# Altium integrated library TI Data Converters Digital to Analog Converter.IntLib: 1533 symbols (part 18 of 99)
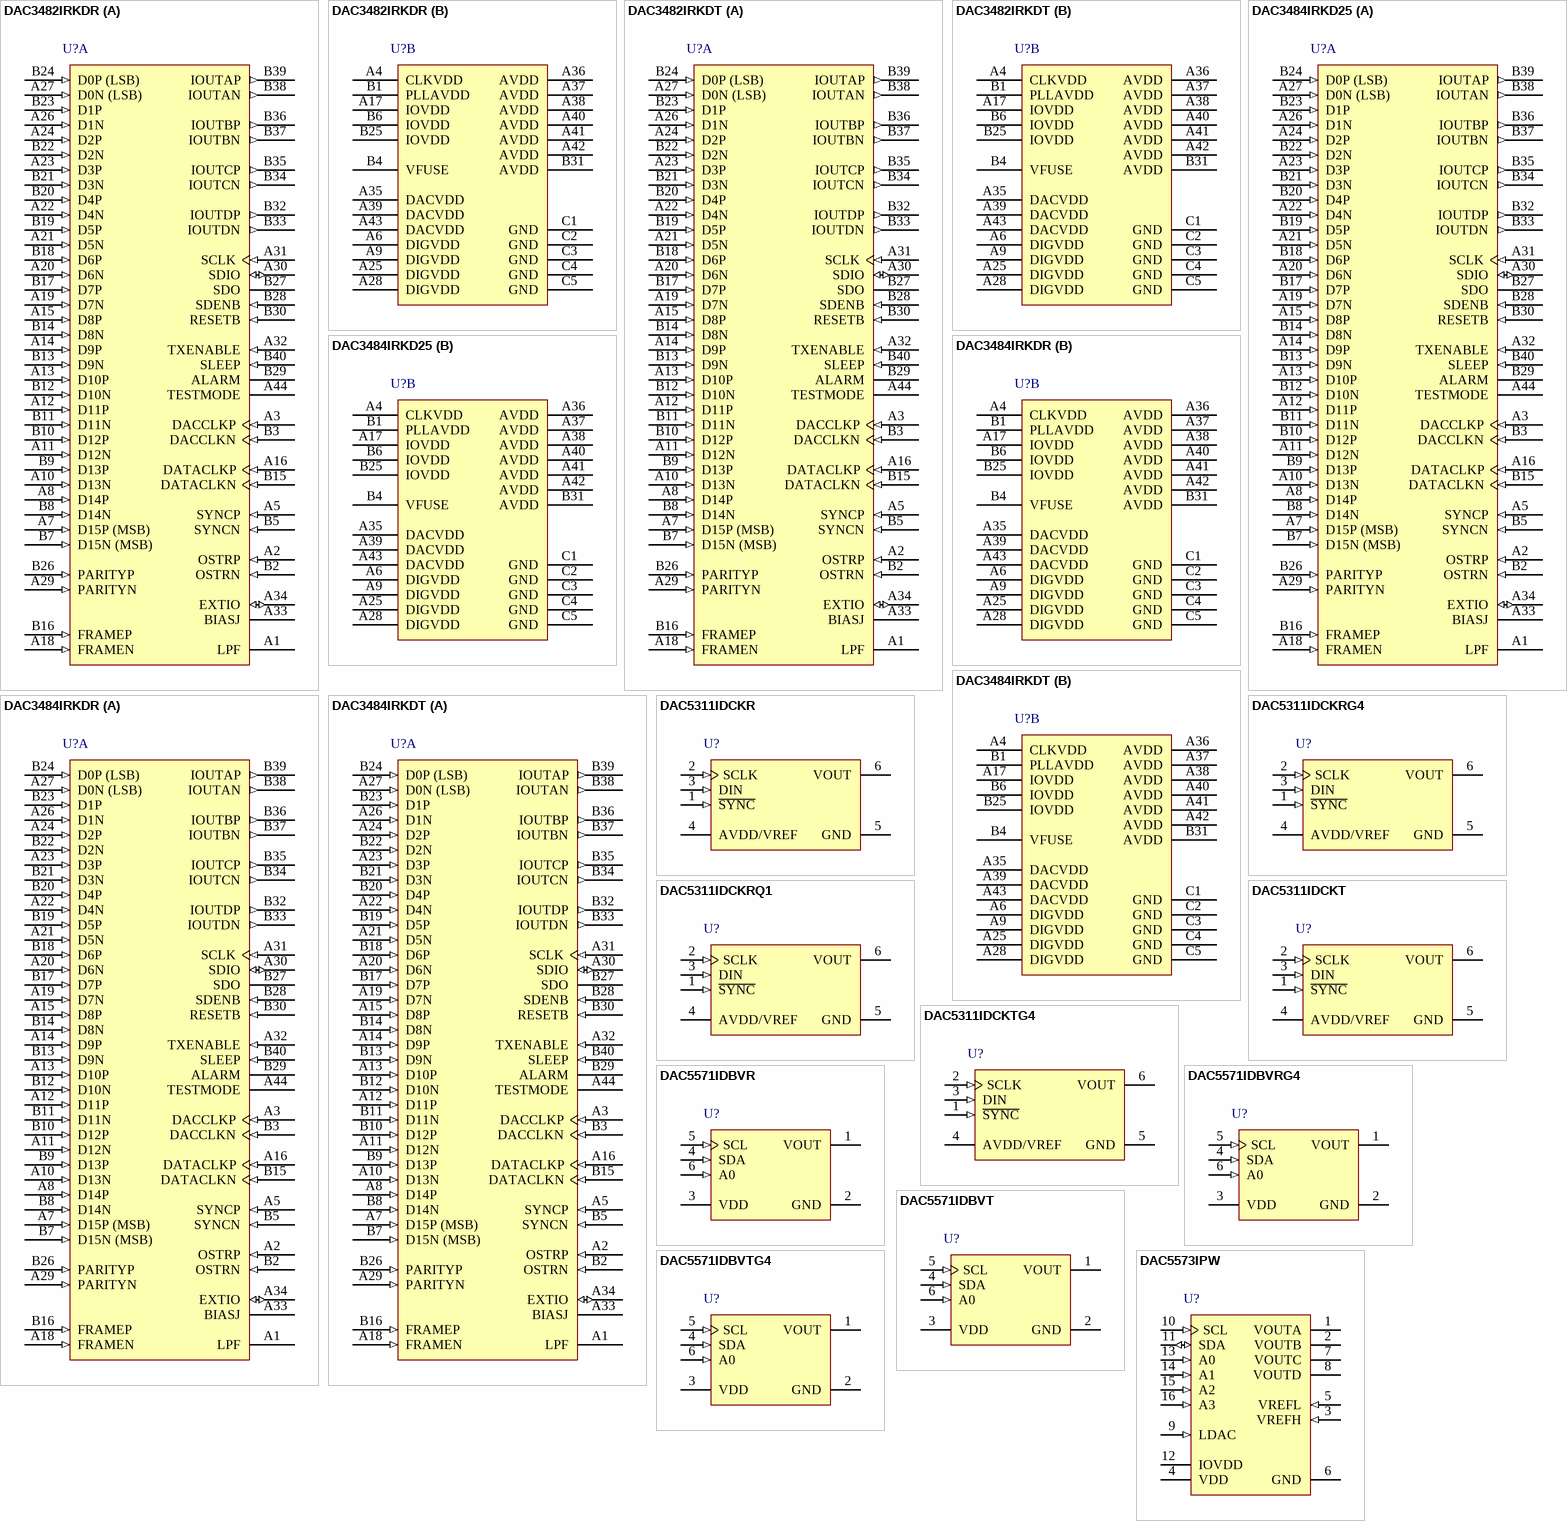
[diagram p90: symbols DAC3482IRKDR to DAC5573IPW]

## DAC3484IRKDT
designator U?
4-Channel 16-Bit 1.25 GSPS DAC, -40 to 85 degC, 88-pin QFN (RKD88), Green (RoHS & no Sb/Br); Manufacturer: Texas Instruments; PartNumber: DAC3484IRKDT; DAC Channels: 4; Interface: Parallel LVDS; Power Consumption(Typ)(mW): 1270; Resolution(Bits): 16; Settling Time(us): 0.01; SFDR(dB): 82; SubFamily: High Speed DAC (>10MSPS); DatasheetVersion: SLAS749C; PackageVersion: 4210251/A, 04/2009; PackageReference: RKD88-6300X6300TP; PackageDescription: 88-Pin Plastic Quad Flatpack No-Lead, Body 9 x 9 mm, Pitch 0.6 mm; Supplier 1: Digi-Key; Supplier Part Number 1: 296-29397-2-ND; Supplier 2: Digi-Key; Supplier Part Number 2: 296-29397-1-ND; Supplier 3: Digi-Key; Supplier Part Number 3: 296-29397-6-ND; Supplier 4: Newark; Supplier Part Number 4: 58T0056; Supplier 5: Mouser; Supplier Part Number 5: 595-DAC3484IRKDT; Eco-Plan: Green (RoHS & no Sb/Br); Mounting Technology: Surface Mount; ComponentLink1Description: Manufacturer URL; ComponentLink1URL: http://www.ti.com/; ComponentLink2Description: Datasheet; ComponentLink2URL: http://www.ti.com/general/docs/lit/getliterature.tsp?genericPartNumber=DAC3484&fileType=pdf; ComponentLink3Description: Package Specification; ComponentLink3URL: http://www.ti.com/litv/pdf/mpqf242
footprint TI-RKD88-6300X6300TP_V (QFN, 88-Leads, Body 9x9mm, Pitch 0.6mm, Thermal Pad 6.3x6.3mm)
part A pins: A1 LPF "PLL loop filter connection. If not using the clock multiplying PLL, the LPF pin can be left unconnected.", A2 OSTRP (in) "LVPECL output strobe positive input. This positive/negative pair is captured with the rising edge of DACCLKP/N. It is used for multiple DAC synchronization. If unused it can be left unconnected.", A3 DACCLKP (in) "Positive external LVPECL clock input for DAC core with a self-bias.", A5 SYNCP (in) "Optional LVDS SYNC positive input. The SYNCP/N LVDS pair has an internal 100 ohm termination resistor. If unused it can be left unconnected.", A7 D15P (MSB) (in) "LVDS positive input data bits 0 through 15. Internal 100 ohm termination resistor. Data format relative to DATACLKP/N clock is Double Data Rate (DDR). D15P is most significant data bit (MSB) D0P is least significant data bit (See Datasheet)", A8 D14P (in) "LVDS positive input data bits 0 through 15. Internal 100 ohm termination resistor. Data format relative to DATACLKP/N clock is Double Data Rate (DDR). D15P is most significant data bit (MSB) D0P is least significant data bit (See Datasheet)", A10 D13N (in) "LVDS negative input data bits 0 through 15. (See D[15:0]P description above)", A11 D12N (in) "LVDS negative input data bits 0 through 15. (See D[15:0]P description above)", A12 D11P (in) "LVDS positive input data bits 0 through 15. Internal 100 ohm termination resistor. Data format relative to DATACLKP/N clock is Double Data Rate (DDR). D15P is most significant data bit (MSB) D0P is least significant data bit (See Datasheet)", A13 D10P (in) "LVDS positive input data bits 0 through 15. Internal 100 ohm termination resistor. Data format relative to DATACLKP/N clock is Double Data Rate (DDR). D15P is most significant data bit (MSB) D0P is least significant data bit (See Datasheet)", A14 D9P (in) "LVDS positive input data bits 0 through 15. Internal 100 ohm termination resistor. Data format relative to DATACLKP/N clock is Double Data Rate (DDR). D15P is most significant data bit (MSB) D0P is least significant data bit (See Datasheet)", A15 D8P (in) "LVDS positive input data bits 0 through 15. Internal 100 ohm termination resistor. Data format relative to DATACLKP/N clock is Double Data Rate (DDR). D15P is most significant data bit (MSB) D0P is least significant data bit (See Datasheet)", A16 DATACLKP (in) "LVDS positive input data clock. Internal 100 ohm termination resistor. Input data D[15:0]P/N is latched on both edges of DATACLKP/N (Double Data Rate).", A18 FRAMEN (in) "LVDS frame indicator negative input. (See the FRAMEP description)", A19 D7N (in) "LVDS negative input data bits 0 through 15. (See D[15:0]P description above)", A20 D6N (in) "LVDS negative input data bits 0 through 15. (See D[15:0]P description above)", A21 D5N (in) "LVDS negative input data bits 0 through 15. (See D[15:0]P description above)", A22 D4N (in) "LVDS negative input data bits 0 through 15. (See D[15:0]P description above)", A23 D3P (in) "LVDS positive input data bits 0 through 15. Internal 100 ohm termination resistor. Data format relative to DATACLKP/N clock is Double Data Rate (DDR). D15P is most significant data bit (MSB) D0P is least significant data bit (See Datasheet)", A24 D2P (in) "LVDS positive input data bits 0 through 15. Internal 100 ohm termination resistor. Data format relative to DATACLKP/N clock is Double Data Rate (DDR). D15P is most significant data bit (MSB) D0P is least significant data bit (See Datasheet)", A26 D1N (in) "LVDS negative input data bits 0 through 15. (See D[15:0]P description above)", A27 D0N (LSB) (in) "LVDS negative input data bits 0 through 15. (See D[15:0]P description above)", A29 PARITYN (in) "Optional LVDS negative input parity bit.", A30 SDIO (io) "Serial interface data. Bi-directional in 3-pin mode (default) and uni-directional 4-pin mode. Internal pull-down.", A31 SCLK (in) "Serial interface clock. Internal pull-down.", A32 TXENABLE (in) "Transmit enable active high input. Internal pull-down. To enable analog output data transmission, set sif_txenable in register config3 to “1” or pull CMOS TXENABLE pin to high. To disable analog output, set sif_txena(See Datasheet)", A33 BIASJ "Full-scale output current bias. For 30mA full-scale output current, connect 1.28 kohm to ground. Change the full-scale output current through coarse_dac(3:0) in config3, bit<15:12>", A34 EXTIO (io) "Used as external reference input when internal reference is disabled through config27 extref_ena = ‘1’. Used as internal reference output when config27 extref_ena = ‘0’ (default). Requires a 0.1 uF dec(See Datasheet)", A44 TESTMODE "This pin is used for factory testing. Internal pull-down. Leave unconnected for normal operation.", B2 OSTRN (in) "LVPECL output strobe negative input. (See the OSTRP description)", B3 DACCLKN (in) "Complementary external LVPECL clock input for DAC core. (see the DACCLKP description)", B5 SYNCN (in) "Optional LVDS SYNC negative input.", B7 D15N (MSB) (in) "LVDS negative input data bits 0 through 15. (See D[15:0]P description above)", B8 D14N (in) "LVDS negative input data bits 0 through 15. (See D[15:0]P description above)", B9 D13P (in) "LVDS positive input data bits 0 through 15. Internal 100 ohm termination resistor. Data format relative to DATACLKP/N clock is Double Data Rate (DDR). D15P is most significant data bit (MSB) D0P is least significant data bit (See Datasheet)", B10 D12P (in) "LVDS positive input data bits 0 through 15. Internal 100 ohm termination resistor. Data format relative to DATACLKP/N clock is Double Data Rate (DDR). D15P is most significant data bit (MSB) D0P is least significant data bit (See Datasheet)", B11 D11N (in) "LVDS negative input data bits 0 through 15. (See D[15:0]P description above)", B12 D10N (in) "LVDS negative input data bits 0 through 15. (See D[15:0]P description above)", B13 D9N (in) "LVDS negative input data bits 0 through 15. (See D[15:0]P description above)", B14 D8N (in) "LVDS negative input data bits 0 through 15. (See D[15:0]P description above)", B15 DATACLKN (in) "LVDS negative input data clock. (See DATACLKP description)", B16 FRAMEP (in) "LVDS frame indicator positive input. Internal 100 ohm termination resistor. The main functions of this input are to reset the FIFO pointer or to be used as a syncing source. These two functions are captured with the rising (See Datasheet)", B17 D7P (in) "LVDS positive input data bits 0 through 15. Internal 100 ohm termination resistor. Data format relative to DATACLKP/N clock is Double Data Rate (DDR). D15P is most significant data bit (MSB) D0P is least significant data bit (See Datasheet)", B18 D6P (in) "LVDS positive input data bits 0 through 15. Internal 100 ohm termination resistor. Data format relative to DATACLKP/N clock is Double Data Rate (DDR). D15P is most significant data bit (MSB) D0P is least significant data bit (See Datasheet)", B19 D5P (in) "LVDS positive input data bits 0 through 15. Internal 100 ohm termination resistor. Data format relative to DATACLKP/N clock is Double Data Rate (DDR). D15P is most significant data bit (MSB) D0P is least significant data bit (See Datasheet)", B20 D4P (in) "LVDS positive input data bits 0 through 15. Internal 100 ohm termination resistor. Data format relative to DATACLKP/N clock is Double Data Rate (DDR). D15P is most significant data bit (MSB) D0P is least significant data bit (See Datasheet)", B21 D3N (in) "LVDS negative input data bits 0 through 15. (See D[15:0]P description above)", B22 D2N (in) "LVDS negative input data bits 0 through 15. (See D[15:0]P description above)", B23 D1P (in) "LVDS positive input data bits 0 through 15. Internal 100 ohm termination resistor. Data format relative to DATACLKP/N clock is Double Data Rate (DDR). D15P is most significant data bit (MSB) D0P is least significant data bit (See Datasheet)", B24 D0P (LSB) (in) "LVDS positive input data bits 0 through 15. Internal 100 ohm termination resistor. Data format relative to DATACLKP/N clock is Double Data Rate (DDR). D15P is most significant data bit (MSB) D0P is least significant data bit (See Datasheet)", B26 PARITYP (in) "Optional LVDS positive input parity bit. The PARITYP/N LVDS pair has an internal 100 ohm termination resistor. If unused it can be left unconnected.", B27 SDO (hiz) "Uni-directional serial interface data in 4-pin mode. The SDO pin is tri-stated in 3-pin interface mode (default).", B28 SDENB (in) "Active low serial data enable, always an input to the DAC3484. Internal pull-up.", B29 ALARM (hiz) "CMOS output for ALARM condition. The ALARM output functionality is defined through the config7 register. Default polarity is active high, but can be changed to active low via config0 alarm_out_pol control bit", B30 RESETB (in) "Active low input for chip RESET, which resets all the programming registers to their default state. Internal pull-up.", B32 IOUTDP (out) "D-Channel DAC current output. Connect directly to ground if unused.", B33 IOUTDN (out) "D-Channel DAC complementary current output. Connect directly to ground if unused.", B34 IOUTCN (out) "C-Channel DAC complementary current output. Connect directly to ground if unused.", B35 IOUTCP (out) "C-Channel DAC current output. Connect directly to ground if unused.", B36 IOUTBP (out) "B-Channel DAC current output. Connect directly to ground if unused.", B37 IOUTBN (out) "B-Channel DAC complementary current output. Connect directly to ground if unused.", B38 IOUTAN (out) "A-Channel DAC complementary current output. Connect directly to ground if unused.", B39 IOUTAP (out) "A-Channel DAC current output. Connect directly to ground if unused.", B40 SLEEP (in) "Active high asynchronous hardware power-down input. Internal pull-down."
part B pins: A4 CLKVDD (power) "Internal clock buffer supply voltage. (1.2 V) It is recommended to isolate this supply from DIGVDD and DACVDD.", A6 DIGVDD (power) "Digital supply voltage. (1.2 V). It is recommended to isolate this supply from CLKVDD and DACVDD.", A9 DIGVDD (power) "Digital supply voltage. (1.2 V). It is recommended to isolate this supply from CLKVDD and DACVDD.", A17 IOVDD (power) "Supply voltage for all digital I/O. (3.3 V)", A25 DIGVDD (power) "Digital supply voltage. (1.2 V). It is recommended to isolate this supply from CLKVDD and DACVDD.", A28 DIGVDD (power) "Digital supply voltage. (1.2 V). It is recommended to isolate this supply from CLKVDD and DACVDD.", A35 DACVDD (power) "DAC core supply voltage. (1.2 V). It is recommended to isolate this supply from CLKVDD and DIGVDD.", A36 AVDD (power) "Analog supply voltage. (3.3 V)", A37 AVDD (power) "Analog supply voltage. (3.3 V)", A38 AVDD (power) "Analog supply voltage. (3.3 V)", A39 DACVDD (power) "DAC core supply voltage. (1.2 V). It is recommended to isolate this supply from CLKVDD and DIGVDD.", A40 AVDD (power) "Analog supply voltage. (3.3 V)", A41 AVDD (power) "Analog supply voltage. (3.3 V)", A42 AVDD (power) "Analog supply voltage. (3.3 V)", A43 DACVDD (power) "DAC core supply voltage. (1.2 V). It is recommended to isolate this supply from CLKVDD and DIGVDD.", B1 PLLAVDD (power) "PLL analog supply voltage. (3.3 V)", B4 VFUSE (power) "Digital supply voltage. This supply pin is also used for factory fuse programming. Connect to DACVDD for normal operation.", B6 IOVDD (power) "Supply voltage for all digital I/O. (3.3 V)", B25 IOVDD (power) "Supply voltage for all digital I/O. (3.3 V)", B31 AVDD (power) "Analog supply voltage. (3.3 V)", C1 GND (power) "These pins are ground for all supplies.", C2 GND (power) "These pins are ground for all supplies.", C3 GND (power) "These pins are ground for all supplies.", C4 GND (power) "These pins are ground for all supplies.", C5 GND (power) "These pins are ground for all supplies."

## DAC5311IDCKR
designator U?
8-Bit, Single Channel, 80 uA, 1.8 to 5.5 V DAC, -40 to 125 degC, 6-pin SOT23 (DCK6), Green (RoHS & no Sb/Br); Manufacturer: Texas Instruments; PartNumber: DAC5311IDCKR; DAC Channels: 1; DNL(Max)(+/-LSB): 0.25; Interface: Serial SPI; Power Consumption(Typ)(mW): 0.14; Resolution(Bits): 8; Settling Time(us): 6; SFDR(dB): 65; SNR(dB): 81; SubFamily: Precision DAC (=<10MSPS); DatasheetVersion: SBAS442B; PackageVersion: 4093553-4/G, 01/2007; PackageReference: DCK6; PackageDescription: 6-Pin Plastic Small Outline, Body 2 x 1.25 mm, Pitch 0.65 mm; Supplier 1: Digi-Key; Supplier Part Number 1: 296-24180-2-ND; Supplier 2: Digi-Key; Supplier Part Number 2: 296-24180-1-ND; Supplier 3: Digi-Key; Supplier Part Number 3: 296-24180-6-ND; Supplier 4: Newark; Supplier Part Number 4: 87W8956; Supplier 5: Newark; Supplier Part Number 5: 12P7424; Supplier 6: Mouser; Supplier Part Number 6: 595-DAC5311IDCKR; Eco-Plan: Green (RoHS & no Sb/Br); INL(Max)(+/-LSB): 0.25; Mounting Technology: Surface Mount; Code_JEDEC: MO-203; ComponentLink1Description: Manufacturer URL; ComponentLink1URL: http://www.ti.com/; ComponentLink2Description: Datasheet; ComponentLink2URL: http://www.ti.com/general/docs/lit/getliterature.tsp?genericPartNumber=DAC5311&fileType=pdf; ComponentLink3Description: Package Specification; ComponentLink3URL: http://www.ti.com/litv/pdf/mpds114c
footprint TI-DCK6_V (SOT23, 6-Leads, Body 2x1.25mm, Pitch 0.65mm)
pins: 1 ~{SYNC} (in) "Level-triggered control input (active low). This is the frame sychronization signal for the input data. When S\Y\N\C\ goes low, it enables the input shift register and data are transferred in on the falling edges of the (See Datasheet)", 2 SCLK (in) "Serial Clock Input. Data can be transferred at rates up to 50MHz.", 3 DIN (in) "Serial Data Input. Data is clocked into the 24-bit (DAC8411) or 16-bit (DAC8311) input shift register on the falling edge of the serial clock input.", 4 AVDD/VREF (power) "Power Supply Input, +2.0V to 5.5V.", 5 GND (power) "Ground reference point for all circuitry on the part.", 6 VOUT (hiz) "Analog output voltage from DAC. The output amplifier has rail-to-rail operation."

## DAC5311IDCKRG4
designator U?
8-Bit, Single Channel, 80 uA, 1.8 to 5.5 V DAC, -40 to 125 degC, 6-pin SOT23 (DCK6), Green (RoHS & no Sb/Br); Manufacturer: Texas Instruments; PartNumber: DAC5311IDCKRG4; DAC Channels: 1; DNL(Max)(+/-LSB): 0.25; Interface: Serial SPI; Power Consumption(Typ)(mW): 0.14; Resolution(Bits): 8; Settling Time(us): 6; SFDR(dB): 65; SNR(dB): 81; SubFamily: Precision DAC (=<10MSPS); DatasheetVersion: SBAS442B; PackageVersion: 4093553-4/G, 01/2007; PackageReference: DCK6; PackageDescription: 6-Pin Plastic Small Outline, Body 2 x 1.25 mm, Pitch 0.65 mm; Supplier 1: Digi-Key; Supplier Part Number 1: DAC5311IDCKRG4-ND; Supplier 2: Mouser; Supplier Part Number 2: 595-DAC5311IDCKRG4; Eco-Plan: Green (RoHS & no Sb/Br); INL(Max)(+/-LSB): 0.25; Mounting Technology: Surface Mount; Code_JEDEC: MO-203; ComponentLink1Description: Manufacturer URL; ComponentLink1URL: http://www.ti.com/; ComponentLink2Description: Datasheet; ComponentLink2URL: http://www.ti.com/general/docs/lit/getliterature.tsp?genericPartNumber=DAC5311&fileType=pdf; ComponentLink3Description: Package Specification; ComponentLink3URL: http://www.ti.com/litv/pdf/mpds114c
footprint TI-DCK6_V (SOT23, 6-Leads, Body 2x1.25mm, Pitch 0.65mm)
pins: 1 ~{SYNC} (in) "Level-triggered control input (active low). This is the frame sychronization signal for the input data. When S\Y\N\C\ goes low, it enables the input shift register and data are transferred in on the falling edges of the (See Datasheet)", 2 SCLK (in) "Serial Clock Input. Data can be transferred at rates up to 50MHz.", 3 DIN (in) "Serial Data Input. Data is clocked into the 24-bit (DAC8411) or 16-bit (DAC8311) input shift register on the falling edge of the serial clock input.", 4 AVDD/VREF (power) "Power Supply Input, +2.0V to 5.5V.", 5 GND (power) "Ground reference point for all circuitry on the part.", 6 VOUT (hiz) "Analog output voltage from DAC. The output amplifier has rail-to-rail operation."

## DAC5311IDCKRQ1
designator U?
Automotive Catalog 8-Bit, Single Channel, 80 uA, 1.8 to 5.5 V DAC, -40 to 85 degC, 6-pin SOT23 (DCK6), Green (RoHS & no Sb/Br); Manufacturer: Texas Instruments; PartNumber: DAC5311IDCKRQ1; DAC Channels: 1; DNL(Max)(+/-LSB): 0.25; Interface: Serial SPI; Power Consumption(Typ)(mW): 0.55; Resolution(Bits): 8; Settling Time(us): 6; SFDR(dB): 65; SNR(dB): 81; SubFamily: Precision DAC (=<10MSPS); DatasheetVersion: SBAS470; PackageVersion: 4093553-4/G, 01/2007; PackageReference: DCK6; PackageDescription: 6-Pin Plastic Small Outline, Body 2 x 1.25 mm, Pitch 0.65 mm; Supplier 1: Digi-Key; Supplier Part Number 1: 296-24816-2-ND; Supplier 2: Digi-Key; Supplier Part Number 2: 296-24816-1-ND; Supplier 3: Digi-Key; Supplier Part Number 3: 296-24816-6-ND; Supplier 4: Mouser; Supplier Part Number 4: 595-DAC5311IDCKRQ1; Eco-Plan: Green (RoHS & no Sb/Br); INL(Max)(+/-LSB): 0.25; Mounting Technology: Surface Mount; Code_JEDEC: MO-203; ComponentLink1Description: Manufacturer URL; ComponentLink1URL: http://www.ti.com/; ComponentLink2Description: Datasheet; ComponentLink2URL: http://www.ti.com/general/docs/lit/getliterature.tsp?genericPartNumber=DAC5311-Q1&fileType=pdf; ComponentLink3Description: Package Specification; ComponentLink3URL: http://www.ti.com/litv/pdf/mpds114c
footprint TI-DCK6_V (SOT23, 6-Leads, Body 2x1.25mm, Pitch 0.65mm)
pins: 1 ~{SYNC} (in) "Level-triggered control input (active low). This is the frame synchronization signal for the input data. When S\Y\N\C\ goes low, it enables the input shift register and data are transferred in on the falling edges of the (See Datasheet)", 2 SCLK (in) "Serial Clock Input. Data can be transferred at rates up to 50MHz.", 3 DIN (in) "Serial data input. Data is clocked into the 16-bit input shift register on the falling edge of the serial clock input.", 4 AVDD/VREF (power) "Power Supply Input, 1.8V to 5.5V.", 5 GND (power) "Ground reference point for all circuitry on the part.", 6 VOUT (hiz) "Analog output voltage from DAC. The output amplifier has rail-to-rail operation."

## DAC5311IDCKT
designator U?
8-Bit, Single Channel, 80 uA, 1.8 to 5.5 V DAC, -40 to 125 degC, 6-pin SOT23 (DCK6), Green (RoHS & no Sb/Br); Manufacturer: Texas Instruments; PartNumber: DAC5311IDCKT; DAC Channels: 1; DNL(Max)(+/-LSB): 0.25; Interface: Serial SPI; Power Consumption(Typ)(mW): 0.14; Resolution(Bits): 8; Settling Time(us): 6; SFDR(dB): 65; SNR(dB): 81; SubFamily: Precision DAC (=<10MSPS); DatasheetVersion: SBAS442B; PackageVersion: 4093553-4/G, 01/2007; PackageReference: DCK6; PackageDescription: 6-Pin Plastic Small Outline, Body 2 x 1.25 mm, Pitch 0.65 mm; Supplier 1: Digi-Key; Supplier Part Number 1: 296-23715-2-ND; Supplier 2: Digi-Key; Supplier Part Number 2: 296-23715-1-ND; Supplier 3: Digi-Key; Supplier Part Number 3: 296-23715-6-ND; Supplier 4: Farnell; Supplier Part Number 4: 1679760; Supplier 5: Newark; Supplier Part Number 5: 08P4363; Supplier 6: Mouser; Supplier Part Number 6: 595-DAC5311IDCKT; Eco-Plan: Green (RoHS & no Sb/Br); INL(Max)(+/-LSB): 0.25; Mounting Technology: Surface Mount; Code_JEDEC: MO-203; ComponentLink1Description: Manufacturer URL; ComponentLink1URL: http://www.ti.com/; ComponentLink2Description: Datasheet; ComponentLink2URL: http://www.ti.com/general/docs/lit/getliterature.tsp?genericPartNumber=DAC5311&fileType=pdf; ComponentLink3Description: Package Specification; ComponentLink3URL: http://www.ti.com/litv/pdf/mpds114c
footprint TI-DCK6_V (SOT23, 6-Leads, Body 2x1.25mm, Pitch 0.65mm)
pins: 1 ~{SYNC} (in) "Level-triggered control input (active low). This is the frame sychronization signal for the input data. When S\Y\N\C\ goes low, it enables the input shift register and data are transferred in on the falling edges of the (See Datasheet)", 2 SCLK (in) "Serial Clock Input. Data can be transferred at rates up to 50MHz.", 3 DIN (in) "Serial Data Input. Data is clocked into the 24-bit (DAC8411) or 16-bit (DAC8311) input shift register on the falling edge of the serial clock input.", 4 AVDD/VREF (power) "Power Supply Input, +2.0V to 5.5V.", 5 GND (power) "Ground reference point for all circuitry on the part.", 6 VOUT (hiz) "Analog output voltage from DAC. The output amplifier has rail-to-rail operation."

## DAC5311IDCKTG4
designator U?
8-Bit, Single Channel, 80 uA, 1.8 to 5.5 V DAC, -40 to 125 degC, 6-pin SOT23 (DCK6), Green (RoHS & no Sb/Br); Manufacturer: Texas Instruments; PartNumber: DAC5311IDCKTG4; DAC Channels: 1; DNL(Max)(+/-LSB): 0.25; Interface: Serial SPI; Power Consumption(Typ)(mW): 0.14; Resolution(Bits): 8; Settling Time(us): 6; SFDR(dB): 65; SNR(dB): 81; SubFamily: Precision DAC (=<10MSPS); DatasheetVersion: SBAS442B; PackageVersion: 4093553-4/G, 01/2007; PackageReference: DCK6; PackageDescription: 6-Pin Plastic Small Outline, Body 2 x 1.25 mm, Pitch 0.65 mm; Supplier 1: Digi-Key; Supplier Part Number 1: DAC5311IDCKTG4-ND; Supplier 2: Newark; Supplier Part Number 2: 34P3663; Supplier 3: Mouser; Supplier Part Number 3: 595-DAC5311IDCKTG4; Eco-Plan: Green (RoHS & no Sb/Br); INL(Max)(+/-LSB): 0.25; Mounting Technology: Surface Mount; Code_JEDEC: MO-203; ComponentLink1Description: Manufacturer URL; ComponentLink1URL: http://www.ti.com/; ComponentLink2Description: Datasheet; ComponentLink2URL: http://www.ti.com/general/docs/lit/getliterature.tsp?genericPartNumber=DAC5311&fileType=pdf; ComponentLink3Description: Package Specification; ComponentLink3URL: http://www.ti.com/litv/pdf/mpds114c
footprint TI-DCK6_V (SOT23, 6-Leads, Body 2x1.25mm, Pitch 0.65mm)
pins: 1 ~{SYNC} (in) "Level-triggered control input (active low). This is the frame sychronization signal for the input data. When S\Y\N\C\ goes low, it enables the input shift register and data are transferred in on the falling edges of the (See Datasheet)", 2 SCLK (in) "Serial Clock Input. Data can be transferred at rates up to 50MHz.", 3 DIN (in) "Serial Data Input. Data is clocked into the 24-bit (DAC8411) or 16-bit (DAC8311) input shift register on the falling edge of the serial clock input.", 4 AVDD/VREF (power) "Power Supply Input, +2.0V to 5.5V.", 5 GND (power) "Ground reference point for all circuitry on the part.", 6 VOUT (hiz) "Analog output voltage from DAC. The output amplifier has rail-to-rail operation."

## DAC5571IDBVR
designator U?
Low-Power, 8-Bit DAC with High-Speed I2C Input, -40 to 105 degC, 6-pin SOT23 (DBV6), Green (RoHS & no Sb/Br); Manufacturer: Texas Instruments; PartNumber: DAC5571IDBVR; DAC Channels: 1; DNL(Max)(+/-LSB): 0.25; Interface: Serial I2C; Power Consumption(Typ)(mW): 0.4; Resolution(Bits): 8; SubFamily: Precision DAC (=<10MSPS); DatasheetVersion: SLAS405A; PackageVersion: 4073253-5/K, 03/2006; PackageReference: DBV6; PackageDescription: 6-Pin Plastic Small Outline, Body 1.6 x 2.9 mm, Pitch 0.95 mm; Supplier 1: Digi-Key; Supplier Part Number 1: DAC5571IDBVR-ND; Supplier 2: Mouser; Supplier Part Number 2: 595-DAC5571IDBVR; Eco-Plan: Green (RoHS & no Sb/Br); INL(Max)(+/-LSB): 1; Settling Time(us): 8; Mounting Technology: Surface Mount; Code_JEDEC: MO-178; ComponentLink1Description: Manufacturer URL; ComponentLink1URL: http://www.ti.com/; ComponentLink2Description: Datasheet; ComponentLink2URL: http://www.ti.com/general/docs/lit/getliterature.tsp?genericPartNumber=DAC5571&fileType=pdf; ComponentLink3Description: Package Specification; ComponentLink3URL: http://www.ti.com/litv/pdf/mpds026h
footprint TI-DBV6_N (SOT23, 6-Leads, Body 2.9x1.6mm, Pitch 0.95mm, IPC Medium Density)
footprint TI-DBV6_L (SOT23, 6-Leads, Body 2.9x1.6mm, Pitch 0.95mm, IPC High Density)
footprint TI-DBV6_M (SOT23, 6-Leads, Body 2.9x1.6mm, Pitch 0.95mm, IPC Low Density)
pins: 1 VOUT (hiz) "Analog output voltage from DAC", 2 GND (power) "Ground reference point for all circuitry on the part", 3 VDD (power) "Analog Voltage Supply Input", 4 SDA (in) "Serial Data Input", 5 SCL (in) "Serial Clock Input", 6 A0 (in) "Device Address Select"

## DAC5571IDBVRG4
designator U?
Low-Power, 8-Bit DAC with High-Speed I2C Input, -40 to 105 degC, 6-pin SOT23 (DBV6), Green (RoHS & no Sb/Br); Manufacturer: Texas Instruments; PartNumber: DAC5571IDBVRG4; DAC Channels: 1; DNL(Max)(+/-LSB): 0.25; Interface: Serial I2C; Power Consumption(Typ)(mW): 0.4; Resolution(Bits): 8; SubFamily: Precision DAC (=<10MSPS); DatasheetVersion: SLAS405A; PackageVersion: 4073253-5/K, 03/2006; PackageReference: DBV6; PackageDescription: 6-Pin Plastic Small Outline, Body 1.6 x 2.9 mm, Pitch 0.95 mm; Supplier 1: Digi-Key; Supplier Part Number 1: DAC5571IDBVRG4-ND; Supplier 2: Mouser; Supplier Part Number 2: 595-DAC5571IDBVRG4; Eco-Plan: Green (RoHS & no Sb/Br); INL(Max)(+/-LSB): 1; Settling Time(us): 8; Mounting Technology: Surface Mount; Code_JEDEC: MO-178; ComponentLink1Description: Manufacturer URL; ComponentLink1URL: http://www.ti.com/; ComponentLink2Description: Datasheet; ComponentLink2URL: http://www.ti.com/general/docs/lit/getliterature.tsp?genericPartNumber=DAC5571&fileType=pdf; ComponentLink3Description: Package Specification; ComponentLink3URL: http://www.ti.com/litv/pdf/mpds026h
footprint TI-DBV6_N (SOT23, 6-Leads, Body 2.9x1.6mm, Pitch 0.95mm, IPC Medium Density)
footprint TI-DBV6_L (SOT23, 6-Leads, Body 2.9x1.6mm, Pitch 0.95mm, IPC High Density)
footprint TI-DBV6_M (SOT23, 6-Leads, Body 2.9x1.6mm, Pitch 0.95mm, IPC Low Density)
pins: 1 VOUT (hiz) "Analog output voltage from DAC", 2 GND (power) "Ground reference point for all circuitry on the part", 3 VDD (power) "Analog Voltage Supply Input", 4 SDA (in) "Serial Data Input", 5 SCL (in) "Serial Clock Input", 6 A0 (in) "Device Address Select"

## DAC5571IDBVT
designator U?
Low-Power, 8-Bit DAC with High-Speed I2C Input, -40 to 105 degC, 6-pin SOT23 (DBV6), Green (RoHS & no Sb/Br); Manufacturer: Texas Instruments; PartNumber: DAC5571IDBVT; DAC Channels: 1; DNL(Max)(+/-LSB): 0.25; Interface: Serial I2C; Power Consumption(Typ)(mW): 0.4; Resolution(Bits): 8; SubFamily: Precision DAC (=<10MSPS); DatasheetVersion: SLAS405A; PackageVersion: 4073253-5/K, 03/2006; PackageReference: DBV6; PackageDescription: 6-Pin Plastic Small Outline, Body 1.6 x 2.9 mm, Pitch 0.95 mm; Supplier 1: Digi-Key; Supplier Part Number 1: 296-17199-2-ND; Supplier 2: Digi-Key; Supplier Part Number 2: 296-17199-1-ND; Supplier 3: Digi-Key; Supplier Part Number 3: 296-17199-6-ND; Supplier 4: Newark; Supplier Part Number 4: 90H1170; Supplier 5: Mouser; Supplier Part Number 5: 595-DAC5571IDBVT; Eco-Plan: Green (RoHS & no Sb/Br); INL(Max)(+/-LSB): 1; Settling Time(us): 8; Mounting Technology: Surface Mount; Code_JEDEC: MO-178; ComponentLink1Description: Manufacturer URL; ComponentLink1URL: http://www.ti.com/; ComponentLink2Description: Datasheet; ComponentLink2URL: http://www.ti.com/general/docs/lit/getliterature.tsp?genericPartNumber=DAC5571&fileType=pdf; ComponentLink3Description: Package Specification; ComponentLink3URL: http://www.ti.com/litv/pdf/mpds026h
footprint TI-DBV6_N (SOT23, 6-Leads, Body 2.9x1.6mm, Pitch 0.95mm, IPC Medium Density)
footprint TI-DBV6_L (SOT23, 6-Leads, Body 2.9x1.6mm, Pitch 0.95mm, IPC High Density)
footprint TI-DBV6_M (SOT23, 6-Leads, Body 2.9x1.6mm, Pitch 0.95mm, IPC Low Density)
pins: 1 VOUT (hiz) "Analog output voltage from DAC", 2 GND (power) "Ground reference point for all circuitry on the part", 3 VDD (power) "Analog Voltage Supply Input", 4 SDA (in) "Serial Data Input", 5 SCL (in) "Serial Clock Input", 6 A0 (in) "Device Address Select"

## DAC5571IDBVTG4
designator U?
Low-Power, 8-Bit DAC with High-Speed I2C Input, -40 to 105 degC, 6-pin SOT23 (DBV6), Green (RoHS & no Sb/Br); Manufacturer: Texas Instruments; PartNumber: DAC5571IDBVTG4; DAC Channels: 1; DNL(Max)(+/-LSB): 0.25; Interface: Serial I2C; Power Consumption(Typ)(mW): 0.4; Resolution(Bits): 8; SubFamily: Precision DAC (=<10MSPS); DatasheetVersion: SLAS405A; PackageVersion: 4073253-5/K, 03/2006; PackageReference: DBV6; PackageDescription: 6-Pin Plastic Small Outline, Body 1.6 x 2.9 mm, Pitch 0.95 mm; Supplier 1: Digi-Key; Supplier Part Number 1: DAC5571IDBVTG4-ND; Supplier 2: Farnell; Supplier Part Number 2: 1206846; Supplier 3: Newark; Supplier Part Number 3: 96K8412; Supplier 4: Newark; Supplier Part Number 4: 53K9291; Supplier 5: Mouser; Supplier Part Number 5: 595-DAC5571IDBVTG4; Eco-Plan: Green (RoHS & no Sb/Br); INL(Max)(+/-LSB): 1; Settling Time(us): 8; Mounting Technology: Surface Mount; Code_JEDEC: MO-178; ComponentLink1Description: Manufacturer URL; ComponentLink1URL: http://www.ti.com/; ComponentLink2Description: Datasheet; ComponentLink2URL: http://www.ti.com/general/docs/lit/getliterature.tsp?genericPartNumber=DAC5571&fileType=pdf; ComponentLink3Description: Package Specification; ComponentLink3URL: http://www.ti.com/litv/pdf/mpds026h
footprint TI-DBV6_N (SOT23, 6-Leads, Body 2.9x1.6mm, Pitch 0.95mm, IPC Medium Density)
footprint TI-DBV6_L (SOT23, 6-Leads, Body 2.9x1.6mm, Pitch 0.95mm, IPC High Density)
footprint TI-DBV6_M (SOT23, 6-Leads, Body 2.9x1.6mm, Pitch 0.95mm, IPC Low Density)
pins: 1 VOUT (hiz) "Analog output voltage from DAC", 2 GND (power) "Ground reference point for all circuitry on the part", 3 VDD (power) "Analog Voltage Supply Input", 4 SDA (in) "Serial Data Input", 5 SCL (in) "Serial Clock Input", 6 A0 (in) "Device Address Select"

## DAC5573IPW
designator U?
8-Bit, Quad DAC with I2C Interface, -40 to 85 degC, 16-pin SOP (PW16), Green (RoHS & no Sb/Br); Manufacturer: Texas Instruments; PartNumber: DAC5573IPW; DAC Channels: 4; DNL(Max)(+/-LSB): 0.25; INL(Max)(+/-LSB): 0.5; Interface: Serial I2C; Power Consumption(Typ)(mW): 1.5; Resolution(Bits): 8; SubFamily: Precision DAC (=<10MSPS); DatasheetVersion: SLAS401; PackageVersion: 4040064-4/G, 02/2011; PackageReference: PW16; PackageDescription: 16-Pin Plastic Small Outline, Body 5 x 4.4 mm, Pitch 0.65 mm; Supplier 1: Digi-Key; Supplier Part Number 1: 296-16636-5-ND; Supplier 2: Newark; Supplier Part Number 2: 90H1171; Supplier 3: Mouser; Supplier Part Number 3: 595-DAC5573IPW; Eco-Plan: Green (RoHS & no Sb/Br); Settling Time(us): 8; Mounting Technology: Surface Mount; Code_JEDEC: MO-153; ComponentLink1Description: Manufacturer URL; ComponentLink1URL: http://www.ti.com/; ComponentLink2Description: Datasheet; ComponentLink2URL: http://www.ti.com/general/docs/lit/getliterature.tsp?genericPartNumber=DAC5573&fileType=pdf; ComponentLink3Description: Package Specification; ComponentLink3URL: http://www.ti.com/lit/ml/mpds361/mpds361.pdf
footprint TI-PW16_N (SOP, 16-Leads, Body 5x4.4mm, Pitch 0.65mm, IPC Medium Density)
footprint TI-PW16_L (SOP, 16-Leads, Body 5x4.4mm, Pitch 0.65mm, IPC High Density)
footprint TI-PW16_M (SOP, 16-Leads, Body 5x4.4mm, Pitch 0.65mm, IPC Low Density)
pins: 1 VOUTA (hiz) "Analog output voltage from DAC A", 2 VOUTB (hiz) "Analog output voltage from DAC B", 3 VREFH (in) "Positive reference voltage input", 4 VDD (power) "Analog voltage supply input", 5 VREFL (in) "Negative reference voltage input", 6 GND (power) "Ground reference point for all circuitry on the part", 7 VOUTC (hiz) "Analog output voltage from DAC C", 8 VOUTD (hiz) "Analog output voltage from DAC D", 9 LDAC (in) "H/W synchronous VOUT update", 10 SCL (in) "Serial clock input", 11 SDA (io) "Serial data input", 12 IOVDD (power) "I/O voltage supply input", 13 A0 (in) "Device address select - I2C", 14 A1 (in) "Device address select - I2C", 15 A2 (in) "Device address select - Extended", 16 A3 (in) "Device address select - Extended"

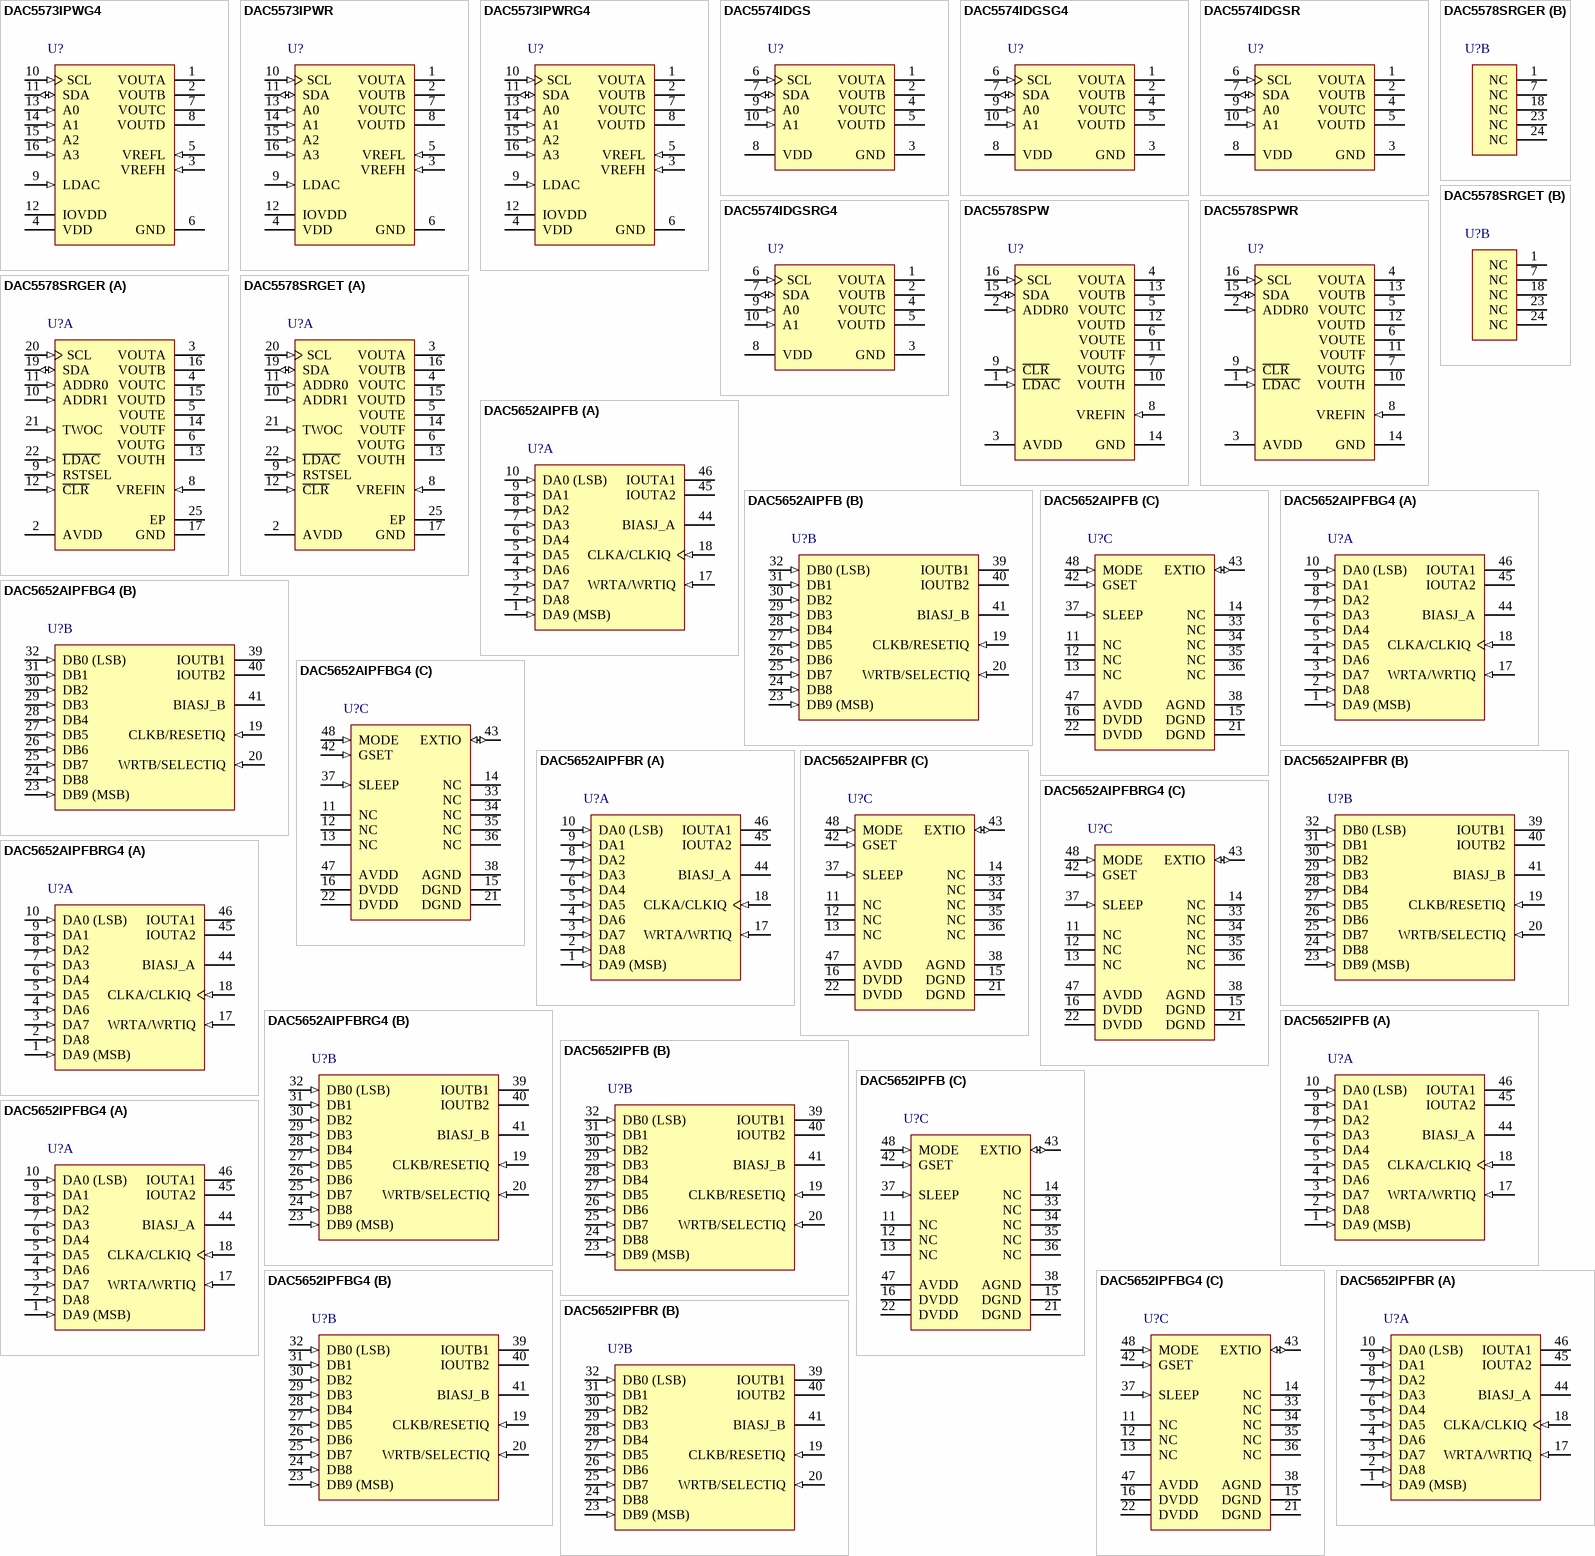
[diagram p14: symbols DAC5573IPWG4 to DAC5652IPFBR]

## DAC5573IPWG4
designator U?
8-Bit, Quad DAC with I2C Interface, -40 to 85 degC, 16-pin SOP (PW16), Green (RoHS & no Sb/Br); Manufacturer: Texas Instruments; PartNumber: DAC5573IPWG4; DAC Channels: 4; DNL(Max)(+/-LSB): 0.25; INL(Max)(+/-LSB): 0.5; Interface: Serial I2C; Power Consumption(Typ)(mW): 1.5; Resolution(Bits): 8; SubFamily: Precision DAC (=<10MSPS); DatasheetVersion: SLAS401; PackageVersion: 4040064-4/G, 02/2011; PackageReference: PW16; PackageDescription: 16-Pin Plastic Small Outline, Body 5 x 4.4 mm, Pitch 0.65 mm; Supplier 1: Digi-Key; Supplier Part Number 1: DAC5573IPWG4-ND; Supplier 2: Mouser; Supplier Part Number 2: 595-DAC5573IPWG4; Eco-Plan: Green (RoHS & no Sb/Br); Settling Time(us): 8; Mounting Technology: Surface Mount; Code_JEDEC: MO-153; ComponentLink1Description: Manufacturer URL; ComponentLink1URL: http://www.ti.com/; ComponentLink2Description: Datasheet; ComponentLink2URL: http://www.ti.com/general/docs/lit/getliterature.tsp?genericPartNumber=DAC5573&fileType=pdf; ComponentLink3Description: Package Specification; ComponentLink3URL: http://www.ti.com/lit/ml/mpds361/mpds361.pdf
footprint TI-PW16_N (SOP, 16-Leads, Body 5x4.4mm, Pitch 0.65mm, IPC Medium Density)
footprint TI-PW16_L (SOP, 16-Leads, Body 5x4.4mm, Pitch 0.65mm, IPC High Density)
footprint TI-PW16_M (SOP, 16-Leads, Body 5x4.4mm, Pitch 0.65mm, IPC Low Density)
pins: 1 VOUTA (hiz) "Analog output voltage from DAC A", 2 VOUTB (hiz) "Analog output voltage from DAC B", 3 VREFH (in) "Positive reference voltage input", 4 VDD (power) "Analog voltage supply input", 5 VREFL (in) "Negative reference voltage input", 6 GND (power) "Ground reference point for all circuitry on the part", 7 VOUTC (hiz) "Analog output voltage from DAC C", 8 VOUTD (hiz) "Analog output voltage from DAC D", 9 LDAC (in) "H/W synchronous VOUT update", 10 SCL (in) "Serial clock input", 11 SDA (io) "Serial data input", 12 IOVDD (power) "I/O voltage supply input", 13 A0 (in) "Device address select - I2C", 14 A1 (in) "Device address select - I2C", 15 A2 (in) "Device address select - Extended", 16 A3 (in) "Device address select - Extended"

## DAC5573IPWR
designator U?
8-Bit, Quad DAC with I2C Interface, -40 to 85 degC, 16-pin SOP (PW16), Green (RoHS & no Sb/Br); Manufacturer: Texas Instruments; PartNumber: DAC5573IPWR; DAC Channels: 4; DNL(Max)(+/-LSB): 0.25; INL(Max)(+/-LSB): 0.5; Interface: Serial I2C; Power Consumption(Typ)(mW): 1.5; Resolution(Bits): 8; SubFamily: Precision DAC (=<10MSPS); DatasheetVersion: SLAS401; PackageVersion: 4040064-4/G, 02/2011; PackageReference: PW16; PackageDescription: 16-Pin Plastic Small Outline, Body 5 x 4.4 mm, Pitch 0.65 mm; Supplier 1: Digi-Key; Supplier Part Number 1: DAC5573IPWR-ND; Supplier 2: Mouser; Supplier Part Number 2: 595-DAC5573IPWR; Eco-Plan: Green (RoHS & no Sb/Br); Settling Time(us): 8; Mounting Technology: Surface Mount; Code_JEDEC: MO-153; ComponentLink1Description: Manufacturer URL; ComponentLink1URL: http://www.ti.com/; ComponentLink2Description: Datasheet; ComponentLink2URL: http://www.ti.com/general/docs/lit/getliterature.tsp?genericPartNumber=DAC5573&fileType=pdf; ComponentLink3Description: Package Specification; ComponentLink3URL: http://www.ti.com/lit/ml/mpds361/mpds361.pdf
footprint TI-PW16_N (SOP, 16-Leads, Body 5x4.4mm, Pitch 0.65mm, IPC Medium Density)
footprint TI-PW16_L (SOP, 16-Leads, Body 5x4.4mm, Pitch 0.65mm, IPC High Density)
footprint TI-PW16_M (SOP, 16-Leads, Body 5x4.4mm, Pitch 0.65mm, IPC Low Density)
pins: 1 VOUTA (hiz) "Analog output voltage from DAC A", 2 VOUTB (hiz) "Analog output voltage from DAC B", 3 VREFH (in) "Positive reference voltage input", 4 VDD (power) "Analog voltage supply input", 5 VREFL (in) "Negative reference voltage input", 6 GND (power) "Ground reference point for all circuitry on the part", 7 VOUTC (hiz) "Analog output voltage from DAC C", 8 VOUTD (hiz) "Analog output voltage from DAC D", 9 LDAC (in) "H/W synchronous VOUT update", 10 SCL (in) "Serial clock input", 11 SDA (io) "Serial data input", 12 IOVDD (power) "I/O voltage supply input", 13 A0 (in) "Device address select - I2C", 14 A1 (in) "Device address select - I2C", 15 A2 (in) "Device address select - Extended", 16 A3 (in) "Device address select - Extended"

## DAC5573IPWRG4
designator U?
8-Bit, Quad DAC with I2C Interface, -40 to 85 degC, 16-pin SOP (PW16), Green (RoHS & no Sb/Br); Manufacturer: Texas Instruments; PartNumber: DAC5573IPWRG4; DAC Channels: 4; DNL(Max)(+/-LSB): 0.25; INL(Max)(+/-LSB): 0.5; Interface: Serial I2C; Power Consumption(Typ)(mW): 1.5; Resolution(Bits): 8; SubFamily: Precision DAC (=<10MSPS); DatasheetVersion: SLAS401; PackageVersion: 4040064-4/G, 02/2011; PackageReference: PW16; PackageDescription: 16-Pin Plastic Small Outline, Body 5 x 4.4 mm, Pitch 0.65 mm; Supplier 1: Digi-Key; Supplier Part Number 1: DAC5573IPWRG4-ND; Supplier 2: Mouser; Supplier Part Number 2: 595-DAC5573IPWRG4; Eco-Plan: Green (RoHS & no Sb/Br); Settling Time(us): 8; Mounting Technology: Surface Mount; Code_JEDEC: MO-153; ComponentLink1Description: Manufacturer URL; ComponentLink1URL: http://www.ti.com/; ComponentLink2Description: Datasheet; ComponentLink2URL: http://www.ti.com/general/docs/lit/getliterature.tsp?genericPartNumber=DAC5573&fileType=pdf; ComponentLink3Description: Package Specification; ComponentLink3URL: http://www.ti.com/lit/ml/mpds361/mpds361.pdf
footprint TI-PW16_N (SOP, 16-Leads, Body 5x4.4mm, Pitch 0.65mm, IPC Medium Density)
footprint TI-PW16_L (SOP, 16-Leads, Body 5x4.4mm, Pitch 0.65mm, IPC High Density)
footprint TI-PW16_M (SOP, 16-Leads, Body 5x4.4mm, Pitch 0.65mm, IPC Low Density)
pins: 1 VOUTA (hiz) "Analog output voltage from DAC A", 2 VOUTB (hiz) "Analog output voltage from DAC B", 3 VREFH (in) "Positive reference voltage input", 4 VDD (power) "Analog voltage supply input", 5 VREFL (in) "Negative reference voltage input", 6 GND (power) "Ground reference point for all circuitry on the part", 7 VOUTC (hiz) "Analog output voltage from DAC C", 8 VOUTD (hiz) "Analog output voltage from DAC D", 9 LDAC (in) "H/W synchronous VOUT update", 10 SCL (in) "Serial clock input", 11 SDA (io) "Serial data input", 12 IOVDD (power) "I/O voltage supply input", 13 A0 (in) "Device address select - I2C", 14 A1 (in) "Device address select - I2C", 15 A2 (in) "Device address select - Extended", 16 A3 (in) "Device address select - Extended"

## DAC5574IDGS
designator U?
8-Bit, Quad DAC with I2C Interface, -40 to 85 degC, 10-pin SOP (DGS10), Green (RoHS & no Sb/Br); Manufacturer: Texas Instruments; PartNumber: DAC5574IDGS; DAC Channels: 4; DNL(Max)(+/-LSB): 0.25; INL(Max)(+/-LSB): 0.5; Interface: Serial I2C; Power Consumption(Typ)(mW): 1.5; Resolution(Bits): 8; SubFamily: Precision DAC (=<10MSPS); DatasheetVersion: SLAS407; PackageVersion: 4073272/C, 02/2004; PackageReference: DGS10; PackageDescription: 10-Pin Plastic Small Outline, Body 3 x 3 mm, Pitch 0.5 mm; Supplier 1: Digi-Key; Supplier Part Number 1: 296-16665-5-ND; Supplier 2: Newark; Supplier Part Number 2: 90H1173; Supplier 3: Mouser; Supplier Part Number 3: 595-DAC5574IDGS; Eco-Plan: Green (RoHS & no Sb/Br); Settling Time(us): 8; Mounting Technology: Surface Mount; Code_JEDEC: MO-153; ComponentLink1Description: Manufacturer URL; ComponentLink1URL: http://www.ti.com/; ComponentLink2Description: Datasheet; ComponentLink2URL: http://www.ti.com/general/docs/lit/getliterature.tsp?genericPartNumber=DAC5574&fileType=pdf; ComponentLink3Description: Package Specification; ComponentLink3URL: http://www.ti.com/lit/ml/mpds035b/mpds035b.pdf
footprint TI-DGS10_N (SOP, 10-Leads, Body 3x3mm, Pitch 0.5mm, IPC Medium Density)
footprint TI-DGS10_L (SOP, 10-Leads, Body 3x3mm, Pitch 0.5mm, IPC High Density)
footprint TI-DGS10_M (SOP, 10-Leads, Body 3x3mm, Pitch 0.5mm, IPC Low Density)
pins: 1 VOUTA (hiz) "Analog output voltage from DAC A", 2 VOUTB (hiz) "Analog output voltage from DAC B", 3 GND (power) "Ground reference point for all circuitry on the part", 4 VOUTC (hiz) "Analog output voltage from DAC C", 5 VOUTD (hiz) "Analog output voltage from DAC D", 6 SCL (in) "Serial clock input", 7 SDA (io) "Serial data input and output", 8 VDD (power) "Analog voltage supply input", 9 A0 (in) "Device address select - I2C", 10 A1 (in) "Device address select - I2C"

## DAC5574IDGSG4
designator U?
8-Bit, Quad DAC with I2C Interface, -40 to 85 degC, 10-pin SOP (DGS10), Green (RoHS & no Sb/Br); Manufacturer: Texas Instruments; PartNumber: DAC5574IDGSG4; DAC Channels: 4; DNL(Max)(+/-LSB): 0.25; INL(Max)(+/-LSB): 0.5; Interface: Serial I2C; Power Consumption(Typ)(mW): 1.5; Resolution(Bits): 8; SubFamily: Precision DAC (=<10MSPS); DatasheetVersion: SLAS407; PackageVersion: 4073272/C, 02/2004; PackageReference: DGS10; PackageDescription: 10-Pin Plastic Small Outline, Body 3 x 3 mm, Pitch 0.5 mm; Supplier 1: Digi-Key; Supplier Part Number 1: DAC5574IDGSG4-ND; Supplier 2: Mouser; Supplier Part Number 2: 595-DAC5574IDGSG4; Eco-Plan: Green (RoHS & no Sb/Br); Settling Time(us): 8; Mounting Technology: Surface Mount; Code_JEDEC: MO-153; ComponentLink1Description: Manufacturer URL; ComponentLink1URL: http://www.ti.com/; ComponentLink2Description: Datasheet; ComponentLink2URL: http://www.ti.com/general/docs/lit/getliterature.tsp?genericPartNumber=DAC5574&fileType=pdf; ComponentLink3Description: Package Specification; ComponentLink3URL: http://www.ti.com/lit/ml/mpds035b/mpds035b.pdf
footprint TI-DGS10_N (SOP, 10-Leads, Body 3x3mm, Pitch 0.5mm, IPC Medium Density)
footprint TI-DGS10_L (SOP, 10-Leads, Body 3x3mm, Pitch 0.5mm, IPC High Density)
footprint TI-DGS10_M (SOP, 10-Leads, Body 3x3mm, Pitch 0.5mm, IPC Low Density)
pins: 1 VOUTA (hiz) "Analog output voltage from DAC A", 2 VOUTB (hiz) "Analog output voltage from DAC B", 3 GND (power) "Ground reference point for all circuitry on the part", 4 VOUTC (hiz) "Analog output voltage from DAC C", 5 VOUTD (hiz) "Analog output voltage from DAC D", 6 SCL (in) "Serial clock input", 7 SDA (io) "Serial data input and output", 8 VDD (power) "Analog voltage supply input", 9 A0 (in) "Device address select - I2C", 10 A1 (in) "Device address select - I2C"

## DAC5574IDGSR
designator U?
8-Bit, Quad DAC with I2C Interface, -40 to 85 degC, 10-pin SOP (DGS10), Green (RoHS & no Sb/Br); Manufacturer: Texas Instruments; PartNumber: DAC5574IDGSR; DAC Channels: 4; DNL(Max)(+/-LSB): 0.25; INL(Max)(+/-LSB): 0.5; Interface: Serial I2C; Power Consumption(Typ)(mW): 1.5; Resolution(Bits): 8; SubFamily: Precision DAC (=<10MSPS); DatasheetVersion: SLAS407; PackageVersion: 4073272/C, 02/2004; PackageReference: DGS10; PackageDescription: 10-Pin Plastic Small Outline, Body 3 x 3 mm, Pitch 0.5 mm; Supplier 1: Digi-Key; Supplier Part Number 1: DAC5574IDGSR-ND; Supplier 2: Mouser; Supplier Part Number 2: 595-DAC5574IDGSR; Eco-Plan: Green (RoHS & no Sb/Br); Settling Time(us): 8; Mounting Technology: Surface Mount; Code_JEDEC: MO-153; ComponentLink1Description: Manufacturer URL; ComponentLink1URL: http://www.ti.com/; ComponentLink2Description: Datasheet; ComponentLink2URL: http://www.ti.com/general/docs/lit/getliterature.tsp?genericPartNumber=DAC5574&fileType=pdf; ComponentLink3Description: Package Specification; ComponentLink3URL: http://www.ti.com/lit/ml/mpds035b/mpds035b.pdf
footprint TI-DGS10_N (SOP, 10-Leads, Body 3x3mm, Pitch 0.5mm, IPC Medium Density)
footprint TI-DGS10_L (SOP, 10-Leads, Body 3x3mm, Pitch 0.5mm, IPC High Density)
footprint TI-DGS10_M (SOP, 10-Leads, Body 3x3mm, Pitch 0.5mm, IPC Low Density)
pins: 1 VOUTA (hiz) "Analog output voltage from DAC A", 2 VOUTB (hiz) "Analog output voltage from DAC B", 3 GND (power) "Ground reference point for all circuitry on the part", 4 VOUTC (hiz) "Analog output voltage from DAC C", 5 VOUTD (hiz) "Analog output voltage from DAC D", 6 SCL (in) "Serial clock input", 7 SDA (io) "Serial data input and output", 8 VDD (power) "Analog voltage supply input", 9 A0 (in) "Device address select - I2C", 10 A1 (in) "Device address select - I2C"

## DAC5574IDGSRG4
designator U?
8-Bit, Quad DAC with I2C Interface, -40 to 85 degC, 10-pin SOP (DGS10), Green (RoHS & no Sb/Br); Manufacturer: Texas Instruments; PartNumber: DAC5574IDGSRG4; DAC Channels: 4; DNL(Max)(+/-LSB): 0.25; INL(Max)(+/-LSB): 0.5; Interface: Serial I2C; Power Consumption(Typ)(mW): 1.5; Resolution(Bits): 8; SubFamily: Precision DAC (=<10MSPS); DatasheetVersion: SLAS407; PackageVersion: 4073272/C, 02/2004; PackageReference: DGS10; PackageDescription: 10-Pin Plastic Small Outline, Body 3 x 3 mm, Pitch 0.5 mm; Supplier 1: Digi-Key; Supplier Part Number 1: DAC5574IDGSRG4-ND; Supplier 2: Mouser; Supplier Part Number 2: 595-DAC5574IDGSRG4; Eco-Plan: Green (RoHS & no Sb/Br); Settling Time(us): 8; Mounting Technology: Surface Mount; Code_JEDEC: MO-153; ComponentLink1Description: Manufacturer URL; ComponentLink1URL: http://www.ti.com/; ComponentLink2Description: Datasheet; ComponentLink2URL: http://www.ti.com/general/docs/lit/getliterature.tsp?genericPartNumber=DAC5574&fileType=pdf; ComponentLink3Description: Package Specification; ComponentLink3URL: http://www.ti.com/lit/ml/mpds035b/mpds035b.pdf
footprint TI-DGS10_N (SOP, 10-Leads, Body 3x3mm, Pitch 0.5mm, IPC Medium Density)
footprint TI-DGS10_L (SOP, 10-Leads, Body 3x3mm, Pitch 0.5mm, IPC High Density)
footprint TI-DGS10_M (SOP, 10-Leads, Body 3x3mm, Pitch 0.5mm, IPC Low Density)
pins: 1 VOUTA (hiz) "Analog output voltage from DAC A", 2 VOUTB (hiz) "Analog output voltage from DAC B", 3 GND (power) "Ground reference point for all circuitry on the part", 4 VOUTC (hiz) "Analog output voltage from DAC C", 5 VOUTD (hiz) "Analog output voltage from DAC D", 6 SCL (in) "Serial clock input", 7 SDA (io) "Serial data input and output", 8 VDD (power) "Analog voltage supply input", 9 A0 (in) "Device address select - I2C", 10 A1 (in) "Device address select - I2C"

## DAC5578SPW
designator U?
8-Bit, Octal Channel, Ultra-Low Glitch, Voltage Output, 2-Wire Interface DAC, -40 to 125 degC, 16-pin SOP (PW16), Green (RoHS & no Sb/Br); Manufacturer: Texas Instruments; PartNumber: DAC5578SPW; DAC Channels: 8; DNL(Max)(+/-LSB): 0.25; Interface: Serial I2C; Power Consumption(Typ)(mW): 3.67; Settling Time(us): 7; SubFamily: Precision DAC (=<10MSPS); DatasheetVersion: SBAS496A; PackageVersion: 4040064-4/G, 02/2011; PackageReference: PW16; PackageDescription: 16-Pin Plastic Small Outline, Body 5 x 4.4 mm, Pitch 0.65 mm; Supplier 1: Digi-Key; Supplier Part Number 1: 296-27736-5-ND; Supplier 2: Farnell; Supplier Part Number 2: 1855106; Supplier 3: Newark; Supplier Part Number 3: 01T0027; Supplier 4: Mouser; Supplier Part Number 4: 595-DAC5578SPW; Eco-Plan: Green (RoHS & no Sb/Br); INL(Max)(+/-LSB): 0.25; Resolution(Bits): 8; Mounting Technology: Surface Mount; Code_JEDEC: MO-153; ComponentLink1Description: Manufacturer URL; ComponentLink1URL: http://www.ti.com/; ComponentLink2Description: Datasheet; ComponentLink2URL: http://www.ti.com/general/docs/lit/getliterature.tsp?genericPartNumber=DAC5578&fileType=pdf; ComponentLink3Description: Package Specification; ComponentLink3URL: http://www.ti.com/lit/ml/mpds361/mpds361.pdf
footprint TI-PW16_N (SOP, 16-Leads, Body 5x4.4mm, Pitch 0.65mm, IPC Medium Density)
footprint TI-PW16_L (SOP, 16-Leads, Body 5x4.4mm, Pitch 0.65mm, IPC High Density)
footprint TI-PW16_M (SOP, 16-Leads, Body 5x4.4mm, Pitch 0.65mm, IPC Low Density)
pins: 1 ~{LDAC} (in) "Load DACs", 2 ADDR0 (in) "3-state address input", 3 AVDD (power) "Power-supply input, 2.7V to 5.5V", 4 VOUTA (hiz) "Analog output voltage from DAC A", 5 VOUTC (hiz) "Analog output voltage from DAC C", 6 VOUTE (hiz) "Analog output voltage from DAC E", 7 VOUTG (hiz) "Analog output voltage from DAC G", 8 VREFIN (in) "Positive reference input", 9 ~{CLR} (in) "Asynchronous clear input", 10 VOUTH (hiz) "Analog output voltage from DAC H", 11 VOUTF (hiz) "Analog output voltage from DAC F", 12 VOUTD (hiz) "Analog output voltage from DAC D", 13 VOUTB (hiz) "Analog output voltage from DAC B", 14 GND (power) "Ground reference point for all circuitry on the device", 15 SDA (io) "Serial data input. Data are clocked into or out of the input register. This pin is a bidirectional, open-drain data line that should be connected to the supply voltage with an external pull-up resistor.", 16 SCL (in) "Serial clock input. Data can be transferred at rates up to 3.4MHz. Schmitt-trigger logic input."